# Altium schematic symbol library resonator.SchLib: 3 symbols
Pins are listed as number, name and electrical type; pins without a type are passive.

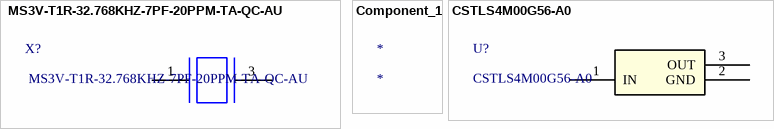
[diagram p0: symbols  MS3V-T1R-32.768KHZ-7PF-20PPM-TA-QC-AU to CSTLS4M00G56-A0]

##  MS3V-T1R-32.768KHZ-7PF-20PPM-TA-QC-AU
designator X?, comment MS3V-T1R-32.768KHZ-7PF-20PPM-TA-QC-AU
No Description Available; Manufacturer_Part_Number: MS3V-T1R-32.768KHZ-7PF-20PPM-TA-QC-AU; Value: Value
pins: 1 IN, 3 OUT

## Component_1
designator *

## CSTLS4M00G56-A0
designator U?
No Description Available; Vendor: Murata; Built_By: EMA_UL_Team; Manufacturer_Part_Number: CSTLS4M00G56-A0; Copyright: Copyright (C) 2018 Accelerated Designs. All rights reserved; RefDes: RefDes; Type: DEV; Value: Value
footprint CSTLS_G
pins: 1 IN, 2 GND, 3 OUT